# EAGLE library part 74*87 (library dec-con)
Complement, true, 1, or 0 gate
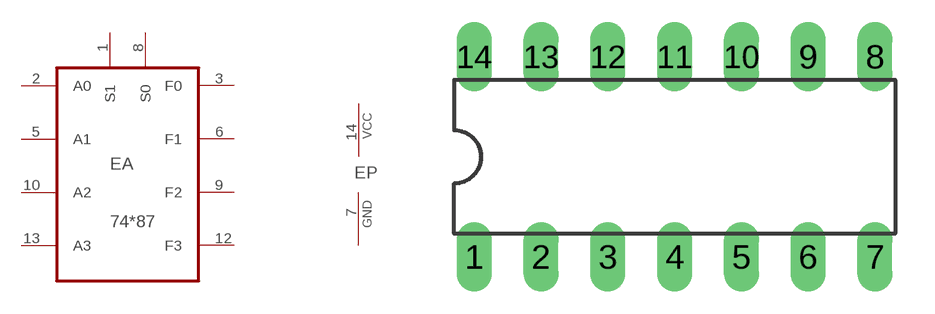
[diagram p112: symbol with the pads of DIL14; footprint DIL14]

Designator prefix E; gates A=7487 P=PWRN

## 7487, 74H87  [DIL14]
1  A:S1  in
2  A:A0  in
3  A:F0  out
5  A:A1  in
6  A:F1  out
7  P:GND  pwr
8  A:S0  in
9  A:F2  out
10  A:A2  in
12  A:F3  out
13  A:A3  in
14  P:VCC  pwr

## Footprint DIL14 (pad centres in mm)
Dual In Line Package
drill 0.813 long: 1 -7.62,-3.81; 2 -5.08,-3.81; 3 -2.54,-3.81; 4 0,-3.81; 5 2.54,-3.81; 6 5.08,-3.81; 7 7.62,-3.81; 8 7.62,3.81; 9 5.08,3.81; 10 2.54,3.81; 11 0,3.81; 12 -2.54,3.81; 13 -5.08,3.81; 14 -7.62,3.81